# EAGLE library part SAMC21-XPLAINED-PRO_NO_EXT1&2 (library Oxford Uni Racing Custom Blueprints)
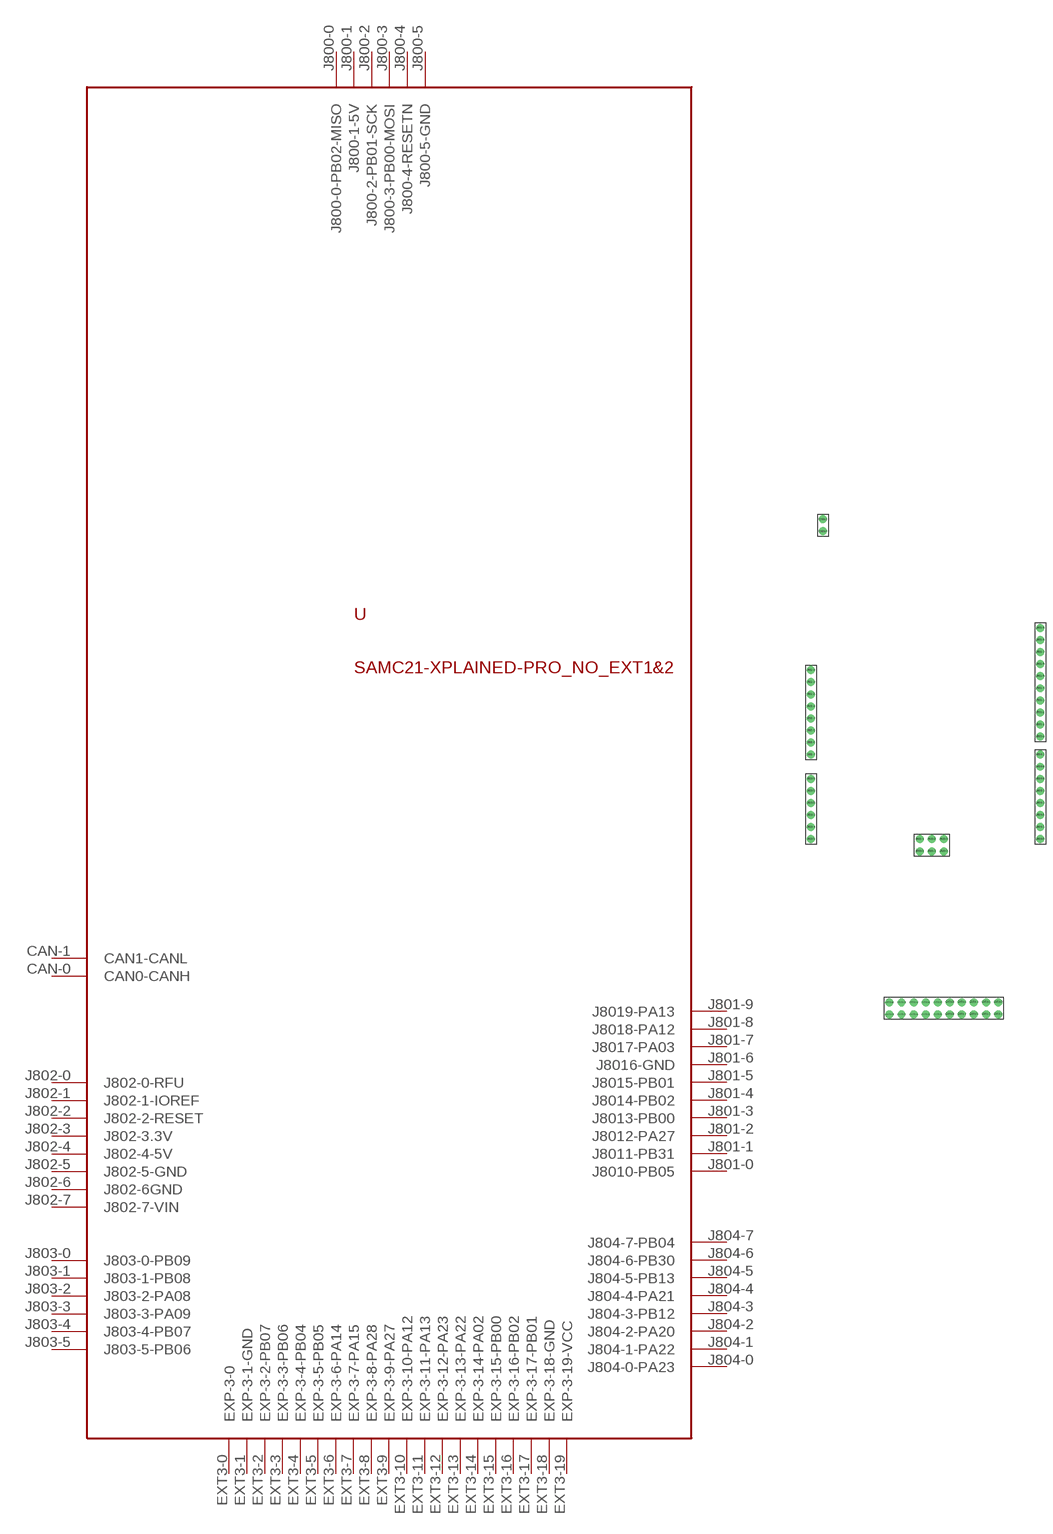
[diagram p2: symbol with the pads of SAMC21-XPLAINED-PRO_NO_EXT1&2; footprint SAMC21-XPLAINED-PRO_NO_EXT1&2]

Designator prefix -

## SAMC21-XPLAINED-PRO_NO_EXT1&2  [SAMC21-XPLAINED-PRO_NO_EXT1&2]
CAN-0  CAN0-CANH
CAN-1  CAN1-CANL
EXT3-0  EXP-3-0
EXT3-1  EXP-3-1-GND
EXT3-2  EXP-3-2-PB07
EXT3-3  EXP-3-3-PB06
EXT3-4  EXP-3-4-PB04
EXT3-5  EXP-3-5-PB05
EXT3-6  EXP-3-6-PA14
EXT3-7  EXP-3-7-PA15
EXT3-8  EXP-3-8-PA28
EXT3-9  EXP-3-9-PA27
EXT3-10  EXP-3-10-PA12
EXT3-11  EXP-3-11-PA13
EXT3-12  EXP-3-12-PA23
EXT3-13  EXP-3-13-PA22
EXT3-14  EXP-3-14-PA02
EXT3-15  EXP-3-15-PB00
EXT3-16  EXP-3-16-PB02
EXT3-17  EXP-3-17-PB01
EXT3-18  EXP-3-18-GND
EXT3-19  EXP-3-19-VCC
J800-0  J800-0-PB02-MISO
J800-1  J800-1-5V
J800-2  J800-2-PB01-SCK
J800-3  J800-3-PB00-MOSI
J800-4  J800-4-RESETN
J800-5  J800-5-GND
J801-0  J8010-PB05
J801-1  J8011-PB31
J801-2  J8012-PA27
J801-3  J8013-PB00
J801-4  J8014-PB02
J801-5  J8015-PB01
J801-6  J8016-GND
J801-7  J8017-PA03
J801-8  J8018-PA12
J801-9  J8019-PA13
J802-0  J802-0-RFU
J802-1  J802-1-IOREF
J802-2  J802-2-RESET
J802-3  J802-3.3V
J802-4  J802-4-5V
J802-5  J802-5-GND
J802-6  J802-6GND
J802-7  J802-7-VIN
J803-0  J803-0-PB09
J803-1  J803-1-PB08
J803-2  J803-2-PA08
J803-3  J803-3-PA09
J803-4  J803-4-PB07
J803-5  J803-5-PB06
J804-0  J804-0-PA23
J804-1  J804-1-PA22
J804-2  J804-2-PA20
J804-3  J804-3-PB12
J804-4  J804-4-PA21
J804-5  J804-5-PB13
J804-6  J804-6-PB30
J804-7  J804-7-PB04

## Footprint SAMC21-XPLAINED-PRO_NO_EXT1&2 (pad centres in mm)
drill 0.8 pad 1.676: CAN-0 2.54,64.77; CAN-1 2.54,67.31; EXT3-0 39.37,-34.29; EXT3-1 39.37,-36.83; EXT3-2 36.83,-34.29; EXT3-3 36.83,-36.83; EXT3-4 34.29,-34.29; EXT3-5 34.29,-36.83; EXT3-6 31.75,-34.29; EXT3-7 31.75,-36.83; EXT3-8 29.21,-34.29; EXT3-9 29.21,-36.83; EXT3-10 26.67,-34.29; EXT3-11 26.67,-36.83; EXT3-12 24.13,-34.29; EXT3-13 24.13,-36.83; EXT3-14 21.59,-34.29; EXT3-15 21.59,-36.83; EXT3-16 19.05,-34.29; EXT3-17 19.05,-36.83; EXT3-18 16.51,-34.29; EXT3-19 16.51,-36.83; J800-0 27.94,0; J800-1 27.94,-2.54; J800-2 25.4,0; J800-3 25.4,-2.54; J800-4 22.86,0; J800-5 22.86,-2.54; J801-0 48.26,21.59; J801-1 48.26,24.13; J801-2 48.26,26.67; J801-3 48.26,29.21; J801-4 48.26,31.75; J801-5 48.26,34.29; J801-6 48.26,36.83; J801-7 48.26,39.37; J801-8 48.26,41.91; J801-9 48.26,44.45; J802-0 0,35.56; J802-1 0,33.02; J802-2 0,30.48; J802-3 0,27.94; J802-4 0,25.4; J802-5 0,22.86; J802-6 0,20.32; J802-7 0,17.78; J803-0 0,12.7; J803-1 0,10.16; J803-2 0,7.62; J803-3 0,5.08; J803-4 0,2.54; J803-5 0,0; J804-0 48.26,0; J804-1 48.26,2.54; J804-2 48.26,5.08; J804-3 48.26,7.62; J804-4 48.26,10.16; J804-5 48.26,12.7; J804-6 48.26,15.24; J804-7 48.26,17.78